# EAGLE library part SPST-4 (library Tinkercad)
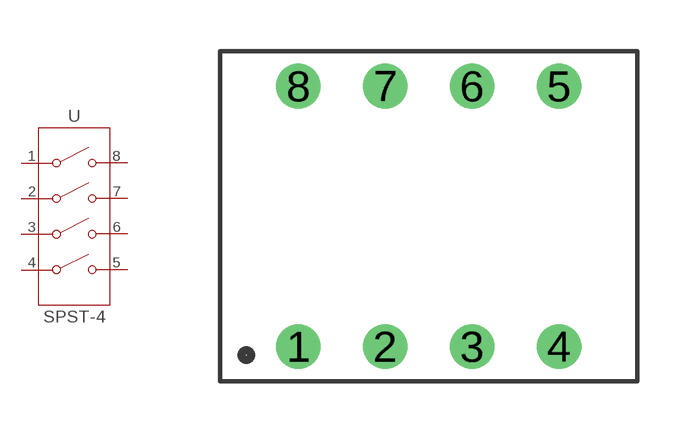
[diagram p33: symbol with the pads of 78B04ST; footprint 78B04ST]

Designator prefix -

## SPST-478B04ST  [78B04ST]
1  1  pas
2  2  pas
3  3  pas
4  4  pas
5  5  pas
6  6  pas
7  7  pas
8  8  pas

## Footprint 78B04ST (pad centres in mm)
drill 0.8: 1 -3.81,-3.81; 2 -1.27,-3.81; 3 1.27,-3.81; 4 3.81,-3.81; 5 3.81,3.81; 6 1.27,3.81; 7 -1.27,3.81; 8 -3.81,3.81